# Altium schematic symbol library inductors.SchLib: 1 symbol
Pins are listed as number, name and electrical type; pins without a type are passive.

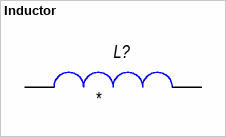
[diagram p0: symbol Inductor]

## Inductor
designator L?
Inductor; Manufacturer: *; Mfg. Part Number: *; Help URL: *; Power/Voltage: *; Type: *; Value: *; Tolerance: *; Operation Temperature: *; Note: *; Case: *
footprint INDC1608X08N (Chip Inductor, 2-Leads, Body 1,60x0,80mm, IPC Medium Density)
footprint INDP3939X11N (Precision Wire Wound Inductor, 2-Leads, Body 3,90x3,90mm, IPC Medium Density, suitable for LPS4012-103MRB)
pins: 1 (power), 2 (power)